# Altium integrated library Infineon_Microcontroller.IntLib: 721 symbols (part 25 of 66)
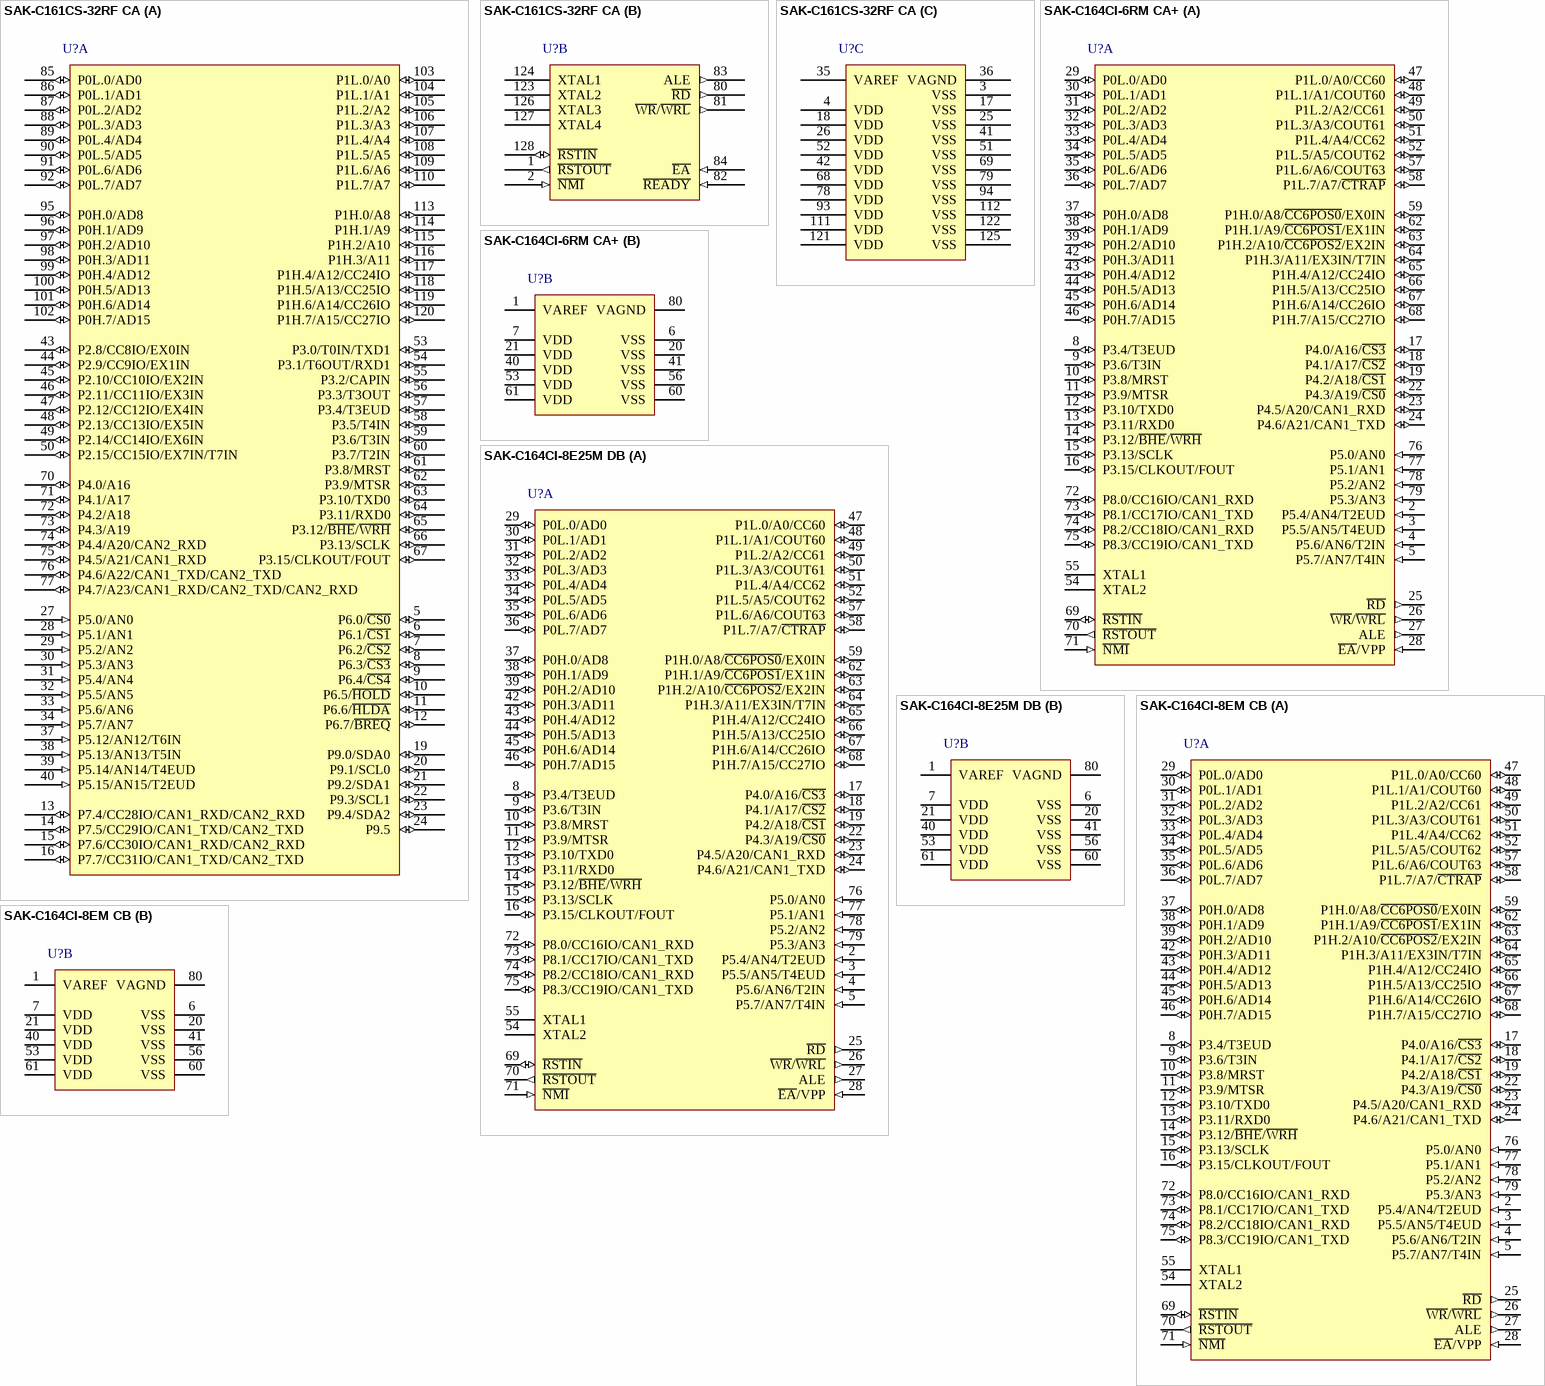
[diagram p142: symbols SAK-C161CS-32RF CA to SAK-C164CI-8EM CB]

## SAK-C164CI-8EM CB
designator U?
20 MHz C166 MCU with 64 KByte Program Memory, 4 KByte SRAM, 5 V, -40 to 125 degC, PG-MQFP-80, Reel, Green; Manufacturer: Infineon; PartNumber: SAK-C164CI-8EM CB; A / D input lines (incl. FADC): 8; CAN Nodes: 1; Digital I/O Lines: 59; DMA Channels: 0; DSP functionality (e.g MDU/MAC): TRUE; I/O Operation Voltages: 5V; Instruction width [bits]: 16; Max Clock Frequency: 20 MHz; Power Modes: 3; Serial I/O Interfaces: 2; SRAM (incl. Cache): 4 KByte; Timed I/O Pins (PWM-Ch,CAPCOM): 12; Timer / Counter: 5; Type of Memory: OTP; Type of Serial I/O Interfaces: ASC(1), SSC(1); DatasheetVersion: Rev. 2.0; PackageVersion: V2.0, 05/2001; PackageReference: P-MQFP-80-7; PackageDescription: 80-Pin Plastic Metric Quad Flat Package, Body 14 x 14 mm, Pitch 0.65 mm; Supplier 1: Newark; Supplier Part Number 1: 62W0452; Supplier 2: Farnell; Supplier Part Number 2: 2212024; Supplier 3: Digi-Key; Supplier Part Number 3: SAK-C164CI-8EMCBIN-ND; External Bus interface: TRUE; Green: TRUE; Halogen-free: TRUE; Number of ADC Modules: 1; Oscillator Watchdog: TRUE; Packing: Reel; Program Memory: 64 KByte; Real Time Clock (RTC): TRUE; Watchdog Timer: TRUE; Mounting Technology: Surface Mount; ComponentLink1Description: Manufacturer URL; ComponentLink1URL: http://www.infineon.com/; ComponentLink2Description: Datasheet; ComponentLink2URL: http://www.infineon.com/dgdl/c164ci_ds_v2.0_2001_05_1.pdf?folderId=db3a304412b407950112b408e8c90004&fileId=db3a304412b407950112b41e161331d0; ComponentLink3Description: Package Specification; ComponentLink3URL: http://www.infineon.com/dgdl/c164ci_ds_v2.0_2001_05_1.pdf?folderId=db3a304412b407950112b408e8c90004&fileId=db3a304412b407950112b41e161331d0&sId=db3a30433d956bc3013d9b13f66314ac
footprint INF-P-MQFP-80-7_N (QFP, 80-Leads, Body 14x14mm, Pitch 0.65mm, IPC Medium Density)
footprint INF-P-MQFP-80-7_L (QFP, 80-Leads, Body 14x14mm, Pitch 0.65mm, IPC High Density)
footprint INF-P-MQFP-80-7_M (QFP, 80-Leads, Body 14x14mm, Pitch 0.65mm, IPC Low Density)
part A pins: 2 P5.4/AN4/T2EUD (in), 3 P5.5/AN5/T4EUD (in), 4 P5.6/AN6/T2IN (in), 5 P5.7/AN7/T4IN (in), 8 P3.4/T3EUD (io), 9 P3.6/T3IN (io), 10 P3.8/MRST (io), 11 P3.9/MTSR (io), 12 P3.10/TXD0 (io), 13 P3.11/RXD0 (io), 14 P3.12/~{BHE}/~{WRH} (io), 15 P3.13/SCLK (io), 16 P3.15/CLKOUT/FOUT (io), 17 P4.0/A16/~{CS3} (io), 18 P4.1/A17/~{CS2} (io), 19 P4.2/A18/~{CS1} (io), 22 P4.3/A19/~{CS0} (io), 23 P4.5/A20/CAN1_RXD (io), 24 P4.6/A21/CAN1_TXD (io), 25 ~{RD} (out) "External Memory Read Strobe. R\D\ is activated for every external instruction or data read access.", 26 ~{WR}/~{WRL} (out) "External Memory Write Strobe. In W\R\-mode this pin is activated for every external data write access. In W\R\L\-mode this pin is activated for low byte data write accesses on a 16-bit bus, and for every data write access on (See Datasheet)", 27 ALE (out) "Address Latch Enable Output. Can be used for latching the address into external memory or an address latch in the multiplexed bus modes.", 28 ~{EA}/VPP (in), 29 P0L.0/AD0 (io), 30 P0L.1/AD1 (io), 31 P0L.2/AD2 (io), 32 P0L.3/AD3 (io), 33 P0L.4/AD4 (io), 34 P0L.5/AD5 (io), 35 P0L.6/AD6 (io), 36 P0L.7/AD7 (io), 37 P0H.0/AD8 (io), 38 P0H.1/AD9 (io), 39 P0H.2/AD10 (io), 42 P0H.3/AD11 (io), 43 P0H.4/AD12 (io), 44 P0H.5/AD13 (io), 45 P0H.6/AD14 (io), 46 P0H.7/AD15 (io), 47 P1L.0/A0/CC60 (io), 48 P1L.1/A1/COUT60 (io), 49 P1L.2/A2/CC61 (io), 50 P1L.3/A3/COUT61 (io), 51 P1L.4/A4/CC62 (io), 52 P1L.5/A5/COUT62 (io), 54 XTAL2 "Output of the oscillator amplifier circuit.", 55 XTAL1 "Input to the oscillator amplifier and input to the internal clock generator", 57 P1L.6/A6/COUT63 (io), 58 P1L.7/A7/~{CTRAP} (io), 59 P1H.0/A8/~{CC6POS0}/EX0IN (io), 62 P1H.1/A9/~{CC6POS1}/EX1IN (io), 63 P1H.2/A10/~{CC6POS2}/EX2IN (io), 64 P1H.3/A11/EX3IN/T7IN (io), 65 P1H.4/A12/CC24IO (io), 66 P1H.5/A13/CC25IO (io), 67 P1H.6/A14/CC26IO (io), 68 P1H.7/A15/CC27IO (io), 69 ~{RSTIN} (io) "Reset Input with Schmitt-Trigger characteristics. A low level at this pin while the oscillator is running resets the C164CI. An internal pullup resistor permits power-on reset using only a capacitor connected to VSS. A spike (See Datasheet)", 70 ~{RSTOUT} (out) "Internal Reset Indication Output. This pin is set to a low level when the part is executing either a hardware-, a software- or a watchdog timer reset. R\S\T\O\U\T\ remains low until the EINIT (end of initialization) (See Datasheet)", 71 ~{NMI} (in) "Non-Maskable Interrupt Input. A high to low transition at this pin causes the CPU to vector to the NMI trap routine. When the PWRDN (power down) instruction is executed, the N\M\I\ pin must be low in order to force the (See Datasheet)", 72 P8.0/CC16IO/CAN1_RXD (io), 73 P8.1/CC17IO/CAN1_TXD (io), 74 P8.2/CC18IO/CAN1_RXD (io), 75 P8.3/CC19IO/CAN1_TXD (io), 76 P5.0/AN0 (in), 77 P5.1/AN1 (in), 78 P5.2/AN2 (in), 79 P5.3/AN3 (in)
part B pins: 1 VAREF (power) "Reference voltage for the A/D converter.", 6 VSS (power) "Digital Ground.", 7 VDD (power) "Digital Supply Voltage: +5 V during normal operation and idle mode. >=2.5 V during power down mode.", 20 VSS (power) "Digital Ground.", 21 VDD (power) "Digital Supply Voltage: +5 V during normal operation and idle mode. >=2.5 V during power down mode.", 40 VDD (power) "Digital Supply Voltage: +5 V during normal operation and idle mode. >=2.5 V during power down mode.", 41 VSS (power) "Digital Ground.", 53 VDD (power) "Digital Supply Voltage: +5 V during normal operation and idle mode. >=2.5 V during power down mode.", 56 VSS (power) "Digital Ground.", 60 VSS (power) "Digital Ground.", 61 VDD (power) "Digital Supply Voltage: +5 V during normal operation and idle mode. >=2.5 V during power down mode.", 80 VAGND (power) "Reference ground for the A/D converter."

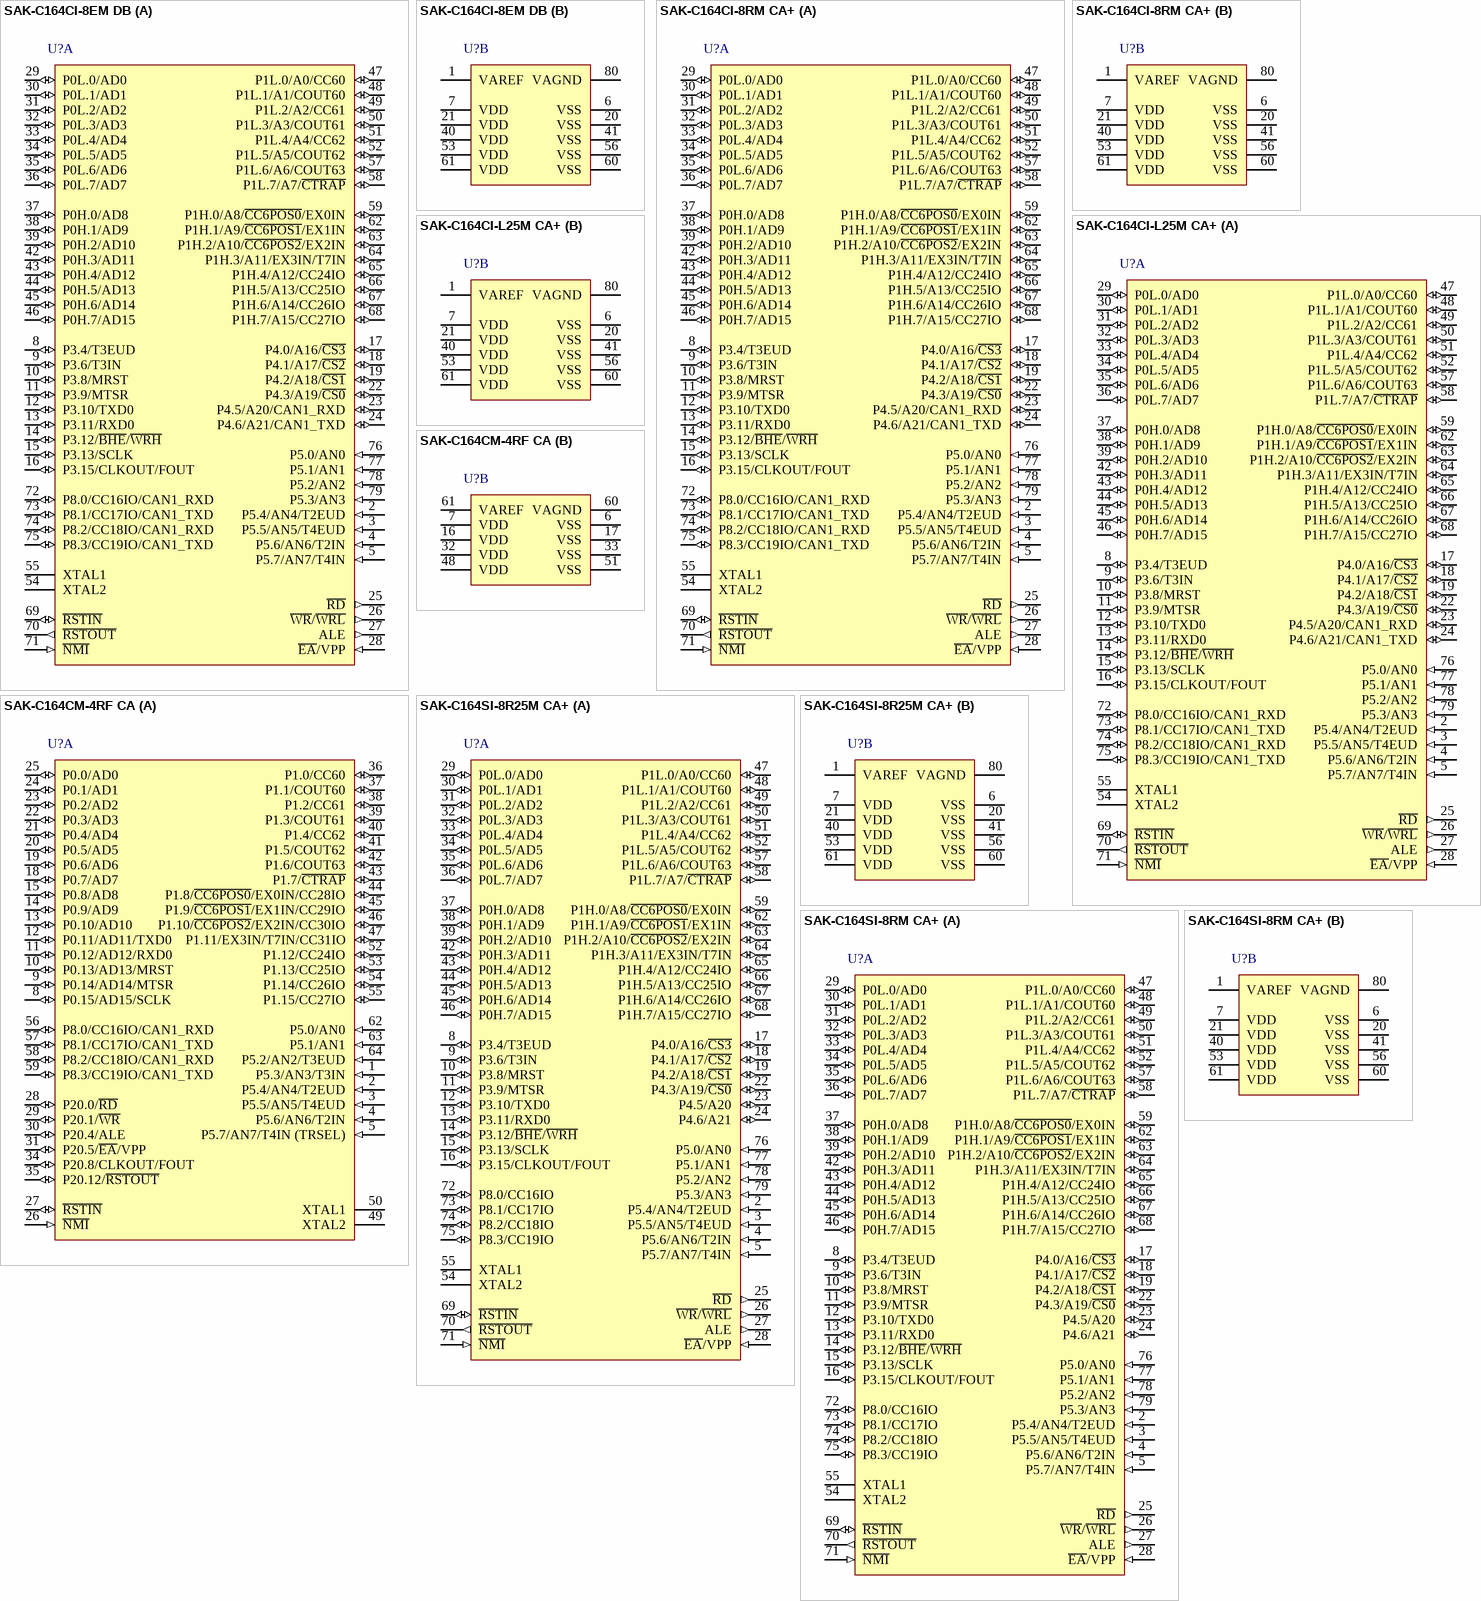
[diagram p42: symbols SAK-C164CI-8EM DB to SAK-C164SI-8RM CA+]

## SAK-C164CI-8EM DB
designator U?
20 MHz C166 MCU with 64 KByte Program Memory, 4 KByte SRAM, 5 V, -40 to 125 degC, PG-MQFP-80, Reel, Green; Manufacturer: Infineon; PartNumber: SAK-C164CI-8EM DB; A / D input lines (incl. FADC): 8; CAN Nodes: 1; Digital I/O Lines: 59; DMA Channels: 0; DSP functionality (e.g MDU/MAC): TRUE; I/O Operation Voltages: 5V; Instruction width [bits]: 16; Max Clock Frequency: 20 MHz; Power Modes: 3; Serial I/O Interfaces: 2; SRAM (incl. Cache): 4 KByte; Timed I/O Pins (PWM-Ch,CAPCOM): 12; Timer / Counter: 5; Type of Memory: OTP; Type of Serial I/O Interfaces: ASC(1), SSC(1); DatasheetVersion: Rev. 2.0; PackageVersion: V2.0, 05/2001; PackageReference: P-MQFP-80-7; PackageDescription: 80-Pin Plastic Metric Quad Flat Package, Body 14 x 14 mm, Pitch 0.65 mm; Supplier 1: Digi-Key; Supplier Part Number 1: SAK-C164CI-8EMDBIN-ND; External Bus interface: TRUE; Green: TRUE; Halogen-free: TRUE; Number of ADC Modules: 1; Oscillator Watchdog: TRUE; Packing: Reel; Program Memory: 64 KByte; Real Time Clock (RTC): TRUE; Watchdog Timer: TRUE; Mounting Technology: Surface Mount; ComponentLink1Description: Manufacturer URL; ComponentLink1URL: http://www.infineon.com/; ComponentLink2Description: Datasheet; ComponentLink2URL: http://www.infineon.com/dgdl/c164ci_ds_v2.0_2001_05_1.pdf?folderId=db3a304412b407950112b408e8c90004&fileId=db3a304412b407950112b41e161331d0; ComponentLink3Description: Package Specification; ComponentLink3URL: http://www.infineon.com/dgdl/c164ci_ds_v2.0_2001_05_1.pdf?folderId=db3a304412b407950112b408e8c90004&fileId=db3a304412b407950112b41e161331d0&sId=db3a30433d956bc3013d9b13f66314ac
footprint INF-P-MQFP-80-7_N (QFP, 80-Leads, Body 14x14mm, Pitch 0.65mm, IPC Medium Density)
footprint INF-P-MQFP-80-7_L (QFP, 80-Leads, Body 14x14mm, Pitch 0.65mm, IPC High Density)
footprint INF-P-MQFP-80-7_M (QFP, 80-Leads, Body 14x14mm, Pitch 0.65mm, IPC Low Density)
part A pins: 2 P5.4/AN4/T2EUD (in), 3 P5.5/AN5/T4EUD (in), 4 P5.6/AN6/T2IN (in), 5 P5.7/AN7/T4IN (in), 8 P3.4/T3EUD (io), 9 P3.6/T3IN (io), 10 P3.8/MRST (io), 11 P3.9/MTSR (io), 12 P3.10/TXD0 (io), 13 P3.11/RXD0 (io), 14 P3.12/~{BHE}/~{WRH} (io), 15 P3.13/SCLK (io), 16 P3.15/CLKOUT/FOUT (io), 17 P4.0/A16/~{CS3} (io), 18 P4.1/A17/~{CS2} (io), 19 P4.2/A18/~{CS1} (io), 22 P4.3/A19/~{CS0} (io), 23 P4.5/A20/CAN1_RXD (io), 24 P4.6/A21/CAN1_TXD (io), 25 ~{RD} (out) "External Memory Read Strobe. R\D\ is activated for every external instruction or data read access.", 26 ~{WR}/~{WRL} (out) "External Memory Write Strobe. In W\R\-mode this pin is activated for every external data write access. In W\R\L\-mode this pin is activated for low byte data write accesses on a 16-bit bus, and for every data write access on (See Datasheet)", 27 ALE (out) "Address Latch Enable Output. Can be used for latching the address into external memory or an address latch in the multiplexed bus modes.", 28 ~{EA}/VPP (in), 29 P0L.0/AD0 (io), 30 P0L.1/AD1 (io), 31 P0L.2/AD2 (io), 32 P0L.3/AD3 (io), 33 P0L.4/AD4 (io), 34 P0L.5/AD5 (io), 35 P0L.6/AD6 (io), 36 P0L.7/AD7 (io), 37 P0H.0/AD8 (io), 38 P0H.1/AD9 (io), 39 P0H.2/AD10 (io), 42 P0H.3/AD11 (io), 43 P0H.4/AD12 (io), 44 P0H.5/AD13 (io), 45 P0H.6/AD14 (io), 46 P0H.7/AD15 (io), 47 P1L.0/A0/CC60 (io), 48 P1L.1/A1/COUT60 (io), 49 P1L.2/A2/CC61 (io), 50 P1L.3/A3/COUT61 (io), 51 P1L.4/A4/CC62 (io), 52 P1L.5/A5/COUT62 (io), 54 XTAL2 "Output of the oscillator amplifier circuit.", 55 XTAL1 "Input to the oscillator amplifier and input to the internal clock generator", 57 P1L.6/A6/COUT63 (io), 58 P1L.7/A7/~{CTRAP} (io), 59 P1H.0/A8/~{CC6POS0}/EX0IN (io), 62 P1H.1/A9/~{CC6POS1}/EX1IN (io), 63 P1H.2/A10/~{CC6POS2}/EX2IN (io), 64 P1H.3/A11/EX3IN/T7IN (io), 65 P1H.4/A12/CC24IO (io), 66 P1H.5/A13/CC25IO (io), 67 P1H.6/A14/CC26IO (io), 68 P1H.7/A15/CC27IO (io), 69 ~{RSTIN} (io) "Reset Input with Schmitt-Trigger characteristics. A low level at this pin while the oscillator is running resets the C164CI. An internal pullup resistor permits power-on reset using only a capacitor connected to VSS. A spike (See Datasheet)", 70 ~{RSTOUT} (out) "Internal Reset Indication Output. This pin is set to a low level when the part is executing either a hardware-, a software- or a watchdog timer reset. R\S\T\O\U\T\ remains low until the EINIT (end of initialization) (See Datasheet)", 71 ~{NMI} (in) "Non-Maskable Interrupt Input. A high to low transition at this pin causes the CPU to vector to the NMI trap routine. When the PWRDN (power down) instruction is executed, the N\M\I\ pin must be low in order to force the (See Datasheet)", 72 P8.0/CC16IO/CAN1_RXD (io), 73 P8.1/CC17IO/CAN1_TXD (io), 74 P8.2/CC18IO/CAN1_RXD (io), 75 P8.3/CC19IO/CAN1_TXD (io), 76 P5.0/AN0 (in), 77 P5.1/AN1 (in), 78 P5.2/AN2 (in), 79 P5.3/AN3 (in)
part B pins: 1 VAREF (power) "Reference voltage for the A/D converter.", 6 VSS (power) "Digital Ground.", 7 VDD (power) "Digital Supply Voltage: +5 V during normal operation and idle mode. >=2.5 V during power down mode.", 20 VSS (power) "Digital Ground.", 21 VDD (power) "Digital Supply Voltage: +5 V during normal operation and idle mode. >=2.5 V during power down mode.", 40 VDD (power) "Digital Supply Voltage: +5 V during normal operation and idle mode. >=2.5 V during power down mode.", 41 VSS (power) "Digital Ground.", 53 VDD (power) "Digital Supply Voltage: +5 V during normal operation and idle mode. >=2.5 V during power down mode.", 56 VSS (power) "Digital Ground.", 60 VSS (power) "Digital Ground.", 61 VDD (power) "Digital Supply Voltage: +5 V during normal operation and idle mode. >=2.5 V during power down mode.", 80 VAGND (power) "Reference ground for the A/D converter."

## SAK-C164CI-8RM CA+
designator U?
20 MHz C166 MCU with 64 KByte Program Memory, 4 KByte SRAM, 5 V, -40 to 125 degC, PG-MQFP-80, Green; Manufacturer: Infineon; PartNumber: SAK-C164CI-8RM CA+; A / D input lines (incl. FADC): 8; CAN Nodes: 1; Digital I/O Lines: 59; DMA Channels: 0; DSP functionality (e.g MDU/MAC): TRUE; I/O Operation Voltages: 5V; Instruction width [bits]: 16; Max Clock Frequency: 20 MHz; Power Modes: 3; Serial I/O Interfaces: 2; SRAM (incl. Cache): 4 KByte; Timed I/O Pins (PWM-Ch,CAPCOM): 12; Timer / Counter: 5; Type of Memory: ROM; Type of Serial I/O Interfaces: ASC(1), SSC(1); DatasheetVersion: Rev. 2.0; PackageVersion: V2.0, 05/2001; PackageReference: P-MQFP-80-7; PackageDescription: 80-Pin Plastic Metric Quad Flat Package, Body 14 x 14 mm, Pitch 0.65 mm; External Bus interface: TRUE; Green: TRUE; Number of ADC Modules: 1; Oscillator Watchdog: TRUE; Program Memory: 64 KByte; Real Time Clock (RTC): TRUE; Watchdog Timer: TRUE; Mounting Technology: Surface Mount; ComponentLink1Description: Manufacturer URL; ComponentLink1URL: http://www.infineon.com/; ComponentLink2Description: Datasheet; ComponentLink2URL: http://www.infineon.com/dgdl/c164ci_ds_v2.0_2001_05_1.pdf?folderId=db3a304412b407950112b408e8c90004&fileId=db3a304412b407950112b41e161331d0; ComponentLink3Description: Package Specification; ComponentLink3URL: http://www.infineon.com/dgdl/c164ci_ds_v2.0_2001_05_1.pdf?folderId=db3a304412b407950112b408e8c90004&fileId=db3a304412b407950112b41e161331d0&sId=db3a30433d956bc3013d9b13f66314ac
footprint INF-P-MQFP-80-7_N (QFP, 80-Leads, Body 14x14mm, Pitch 0.65mm, IPC Medium Density)
footprint INF-P-MQFP-80-7_L (QFP, 80-Leads, Body 14x14mm, Pitch 0.65mm, IPC High Density)
footprint INF-P-MQFP-80-7_M (QFP, 80-Leads, Body 14x14mm, Pitch 0.65mm, IPC Low Density)
part A pins: 2 P5.4/AN4/T2EUD (in), 3 P5.5/AN5/T4EUD (in), 4 P5.6/AN6/T2IN (in), 5 P5.7/AN7/T4IN (in), 8 P3.4/T3EUD (io), 9 P3.6/T3IN (io), 10 P3.8/MRST (io), 11 P3.9/MTSR (io), 12 P3.10/TXD0 (io), 13 P3.11/RXD0 (io), 14 P3.12/~{BHE}/~{WRH} (io), 15 P3.13/SCLK (io), 16 P3.15/CLKOUT/FOUT (io), 17 P4.0/A16/~{CS3} (io), 18 P4.1/A17/~{CS2} (io), 19 P4.2/A18/~{CS1} (io), 22 P4.3/A19/~{CS0} (io), 23 P4.5/A20/CAN1_RXD (io), 24 P4.6/A21/CAN1_TXD (io), 25 ~{RD} (out) "External Memory Read Strobe. R\D\ is activated for every external instruction or data read access.", 26 ~{WR}/~{WRL} (out) "External Memory Write Strobe. In W\R\-mode this pin is activated for every external data write access. In W\R\L\-mode this pin is activated for low byte data write accesses on a 16-bit bus, and for every data write access on (See Datasheet)", 27 ALE (out) "Address Latch Enable Output. Can be used for latching the address into external memory or an address latch in the multiplexed bus modes.", 28 ~{EA}/VPP (in), 29 P0L.0/AD0 (io), 30 P0L.1/AD1 (io), 31 P0L.2/AD2 (io), 32 P0L.3/AD3 (io), 33 P0L.4/AD4 (io), 34 P0L.5/AD5 (io), 35 P0L.6/AD6 (io), 36 P0L.7/AD7 (io), 37 P0H.0/AD8 (io), 38 P0H.1/AD9 (io), 39 P0H.2/AD10 (io), 42 P0H.3/AD11 (io), 43 P0H.4/AD12 (io), 44 P0H.5/AD13 (io), 45 P0H.6/AD14 (io), 46 P0H.7/AD15 (io), 47 P1L.0/A0/CC60 (io), 48 P1L.1/A1/COUT60 (io), 49 P1L.2/A2/CC61 (io), 50 P1L.3/A3/COUT61 (io), 51 P1L.4/A4/CC62 (io), 52 P1L.5/A5/COUT62 (io), 54 XTAL2 "Output of the oscillator amplifier circuit.", 55 XTAL1 "Input to the oscillator amplifier and input to the internal clock generator.", 57 P1L.6/A6/COUT63 (io), 58 P1L.7/A7/~{CTRAP} (io), 59 P1H.0/A8/~{CC6POS0}/EX0IN (io), 62 P1H.1/A9/~{CC6POS1}/EX1IN (io), 63 P1H.2/A10/~{CC6POS2}/EX2IN (io), 64 P1H.3/A11/EX3IN/T7IN (io), 65 P1H.4/A12/CC24IO (io), 66 P1H.5/A13/CC25IO (io), 67 P1H.6/A14/CC26IO (io), 68 P1H.7/A15/CC27IO (io), 69 ~{RSTIN} (io) "Reset Input with Schmitt-Trigger characteristics. A low level at this pin while the oscillator is running resets the C164CI. An internal pullup resistor permits power-on reset using only a capacitor connected to VSS. A spike (See Datasheet)", 70 ~{RSTOUT} (out) "Internal Reset Indication Output. This pin is set to a low level when the part is executing either a hardware-, a software- or a watchdog timer reset. R\S\T\O\U\T\ remains low until the EINIT (end of initialization) (See Datasheet)", 71 ~{NMI} (in) "Non-Maskable Interrupt Input. A high to low transition at this pin causes the CPU to vector to the NMI trap routine. When the PWRDN (power down) instruction is executed, the N\M\I\ pin must be low in order to force the (See Datasheet)", 72 P8.0/CC16IO/CAN1_RXD (io), 73 P8.1/CC17IO/CAN1_TXD (io), 74 P8.2/CC18IO/CAN1_RXD (io), 75 P8.3/CC19IO/CAN1_TXD (io), 76 P5.0/AN0 (in), 77 P5.1/AN1 (in), 78 P5.2/AN2 (in), 79 P5.3/AN3 (in)
part B pins: 1 VAREF (power) "Reference voltage for the A/D converter.", 6 VSS (power) "Digital Ground.", 7 VDD (power) "Digital Supply Voltage: +5 V during normal operation and idle mode. >=2.5 V during power down mode.", 20 VSS (power) "Digital Ground.", 21 VDD (power) "Digital Supply Voltage: +5 V during normal operation and idle mode. >=2.5 V during power down mode.", 40 VDD (power) "Digital Supply Voltage: +5 V during normal operation and idle mode. >=2.5 V during power down mode.", 41 VSS (power) "Digital Ground.", 53 VDD (power) "Digital Supply Voltage: +5 V during normal operation and idle mode. >=2.5 V during power down mode.", 56 VSS (power) "Digital Ground.", 60 VSS (power) "Digital Ground.", 61 VDD (power) "Digital Supply Voltage: +5 V during normal operation and idle mode. >=2.5 V during power down mode.", 80 VAGND (power) "Reference ground for the A/D converter."

## SAK-C164CI-L25M CA+
designator U?
25 MHz C166 MCU without Program Memory, 4 KByte SRAM, 5 V, -40 to 125 degC, PG-MQFP-80, Reel, Green; Manufacturer: Infineon; PartNumber: SAK-C164CI-L25M CA+; A / D input lines (incl. FADC): 8; CAN Nodes: 1; Digital I/O Lines: 59; DMA Channels: 0; DSP functionality (e.g MDU/MAC): TRUE; I/O Operation Voltages: 5V; Instruction width [bits]: 16; Max Clock Frequency: 25 MHz; Power Modes: 3; Serial I/O Interfaces: 2; SRAM (incl. Cache): 4 KByte; Timed I/O Pins (PWM-Ch,CAPCOM): 12; Timer / Counter: 5; Type of Memory: ROM less; Type of Serial I/O Interfaces: ASC(1), SSC(1); DatasheetVersion: Rev. 2.0; PackageVersion: V2.0, 05/2001; PackageReference: P-MQFP-80-7; PackageDescription: 80-Pin Plastic Metric Quad Flat Package, Body 14 x 14 mm, Pitch 0.65 mm; Supplier 1: Digi-Key; Supplier Part Number 1: SAK-C164CI-L25M CA+-ND; External Bus interface: TRUE; Green: TRUE; Halogen-free: TRUE; Number of ADC Modules: 1; Oscillator Watchdog: TRUE; Packing: Reel; Real Time Clock (RTC): TRUE; Watchdog Timer: TRUE; Mounting Technology: Surface Mount; ComponentLink1Description: Manufacturer URL; ComponentLink1URL: http://www.infineon.com/; ComponentLink2Description: Datasheet; ComponentLink2URL: http://www.infineon.com/dgdl/c164ci_ds_v2.0_2001_05_1.pdf?folderId=db3a304412b407950112b408e8c90004&fileId=db3a304412b407950112b41e161331d0; ComponentLink3Description: Package Specification; ComponentLink3URL: http://www.infineon.com/dgdl/c164ci_ds_v2.0_2001_05_1.pdf?folderId=db3a304412b407950112b408e8c90004&fileId=db3a304412b407950112b41e161331d0&sId=db3a30433d956bc3013d9b13f66314ac
footprint INF-P-MQFP-80-7_N (QFP, 80-Leads, Body 14x14mm, Pitch 0.65mm, IPC Medium Density)
footprint INF-P-MQFP-80-7_L (QFP, 80-Leads, Body 14x14mm, Pitch 0.65mm, IPC High Density)
footprint INF-P-MQFP-80-7_M (QFP, 80-Leads, Body 14x14mm, Pitch 0.65mm, IPC Low Density)
part A pins: 2 P5.4/AN4/T2EUD (in), 3 P5.5/AN5/T4EUD (in), 4 P5.6/AN6/T2IN (in), 5 P5.7/AN7/T4IN (in), 8 P3.4/T3EUD (io), 9 P3.6/T3IN (io), 10 P3.8/MRST (io), 11 P3.9/MTSR (io), 12 P3.10/TXD0 (io), 13 P3.11/RXD0 (io), 14 P3.12/~{BHE}/~{WRH} (io), 15 P3.13/SCLK (io), 16 P3.15/CLKOUT/FOUT (io), 17 P4.0/A16/~{CS3} (io), 18 P4.1/A17/~{CS2} (io), 19 P4.2/A18/~{CS1} (io), 22 P4.3/A19/~{CS0} (io), 23 P4.5/A20/CAN1_RXD (io), 24 P4.6/A21/CAN1_TXD (io), 25 ~{RD} (out) "External Memory Read Strobe. R\D\ is activated for every external instruction or data read access.", 26 ~{WR}/~{WRL} (out) "External Memory Write Strobe. In W\R\-mode this pin is activated for every external data write access. In W\R\L\-mode this pin is activated for low byte data write accesses on a 16-bit bus, and for every data write access on (See Datasheet)", 27 ALE (out) "Address Latch Enable Output. Can be used for latching the address into external memory or an address latch in the multiplexed bus modes.", 28 ~{EA}/VPP (in), 29 P0L.0/AD0 (io), 30 P0L.1/AD1 (io), 31 P0L.2/AD2 (io), 32 P0L.3/AD3 (io), 33 P0L.4/AD4 (io), 34 P0L.5/AD5 (io), 35 P0L.6/AD6 (io), 36 P0L.7/AD7 (io), 37 P0H.0/AD8 (io), 38 P0H.1/AD9 (io), 39 P0H.2/AD10 (io), 42 P0H.3/AD11 (io), 43 P0H.4/AD12 (io), 44 P0H.5/AD13 (io), 45 P0H.6/AD14 (io), 46 P0H.7/AD15 (io), 47 P1L.0/A0/CC60 (io), 48 P1L.1/A1/COUT60 (io), 49 P1L.2/A2/CC61 (io), 50 P1L.3/A3/COUT61 (io), 51 P1L.4/A4/CC62 (io), 52 P1L.5/A5/COUT62 (io), 54 XTAL2 "Output of the oscillator amplifier circuit.", 55 XTAL1 "Input to the oscillator amplifier and input to the internal clock generator.", 57 P1L.6/A6/COUT63 (io), 58 P1L.7/A7/~{CTRAP} (io), 59 P1H.0/A8/~{CC6POS0}/EX0IN (io), 62 P1H.1/A9/~{CC6POS1}/EX1IN (io), 63 P1H.2/A10/~{CC6POS2}/EX2IN (io), 64 P1H.3/A11/EX3IN/T7IN (io), 65 P1H.4/A12/CC24IO (io), 66 P1H.5/A13/CC25IO (io), 67 P1H.6/A14/CC26IO (io), 68 P1H.7/A15/CC27IO (io), 69 ~{RSTIN} (io) "Reset Input with Schmitt-Trigger characteristics. A low level at this pin while the oscillator is running resets the C164CI. An internal pullup resistor permits power-on reset using only a capacitor connected to VSS. A spike (See Datasheet)", 70 ~{RSTOUT} (out) "Internal Reset Indication Output. This pin is set to a low level when the part is executing either a hardware-, a software- or a watchdog timer reset. R\S\T\O\U\T\ remains low until the EINIT (end of initialization) (See Datasheet)", 71 ~{NMI} (in) "Non-Maskable Interrupt Input. A high to low transition at this pin causes the CPU to vector to the NMI trap routine. When the PWRDN (power down) instruction is executed, the N\M\I\ pin must be low in order to force the (See Datasheet)", 72 P8.0/CC16IO/CAN1_RXD (io), 73 P8.1/CC17IO/CAN1_TXD (io), 74 P8.2/CC18IO/CAN1_RXD (io), 75 P8.3/CC19IO/CAN1_TXD (io), 76 P5.0/AN0 (in), 77 P5.1/AN1 (in), 78 P5.2/AN2 (in), 79 P5.3/AN3 (in)
part B pins: 1 VAREF (power) "Reference voltage for the A/D converter.", 6 VSS (power) "Digital Ground.", 7 VDD (power) "Digital Supply Voltage: +5 V during normal operation and idle mode. >=2.5 V during power down mode.", 20 VSS (power) "Digital Ground.", 21 VDD (power) "Digital Supply Voltage: +5 V during normal operation and idle mode. >=2.5 V during power down mode.", 40 VDD (power) "Digital Supply Voltage: +5 V during normal operation and idle mode. >=2.5 V during power down mode.", 41 VSS (power) "Digital Ground.", 53 VDD (power) "Digital Supply Voltage: +5 V during normal operation and idle mode. >=2.5 V during power down mode.", 56 VSS (power) "Digital Ground.", 60 VSS (power) "Digital Ground.", 61 VDD (power) "Digital Supply Voltage: +5 V during normal operation and idle mode. >=2.5 V during power down mode.", 80 VAGND (power) "Reference ground for the A/D converter."

## SAK-C164CM-4RF CA
designator U?
20 MHz C166 MCU with 32 KByte Program Memory, 2 KByte SRAM, 5 V, -40 to 125 degC, PG-TQFP-64, Green; Manufacturer: Infineon; PartNumber: SAK-C164CM-4RF CA; A / D input lines (incl. FADC): 8; CAN Nodes: 1; Digital I/O Lines: 50; DMA Channels: 0; DSP functionality (e.g MDU/MAC): TRUE; I/O Operation Voltages: 5V; Instruction width [bits]: 16; Max Clock Frequency: 20 MHz; Power Modes: 3; Serial I/O Interfaces: 2; SRAM (incl. Cache): 2 KByte; Timer / Counter: 5; Type of Memory: ROM; Type of Serial I/O Interfaces: ASC(1), SSC(1); DatasheetVersion: Rev. 1.0; PackageVersion: V1.0, 05/2001; PackageReference: P-TQFP-64-4; PackageDescription: 64-Pin Plastic Metric Quad Flat Package, Body 10 x 10 mm, Pitch 0.5 mm; External Bus interface: TRUE; Green: TRUE; Number of ADC Modules: 1; Oscillator Watchdog: TRUE; Program Memory: 32 KByte; Real Time Clock (RTC): TRUE; Timed I/O Pins (PWM-Ch,CAPCOM): 16; Watchdog Timer: TRUE; Mounting Technology: Surface Mount; ComponentLink1Description: Manufacturer URL; ComponentLink1URL: http://www.infineon.com/; ComponentLink2Description: Datasheet; ComponentLink2URL: http://www.infineon.com/dgdl/c164cm_ds_v1.0_2001_05.pdf?folderId=db3a304412b407950112b408e8c90004&fileId=db3a304412b407950112b41d65b2300c; ComponentLink3Description: Package Specification; ComponentLink3URL: http://www.infineon.com/dgdl/c164cm_ds_v1.0_2001_05.pdf?folderId=db3a304412b407950112b408e8c90004&fileId=db3a304412b407950112b41d65b2300c&sId=db3a30443d98b7f0013d9b87688b0207
footprint INF-P-TQFP-64-4_N (QFP, 64-Leads, Body 10x10mm, Pitch 0.5mm, IPC Medium Density)
footprint INF-P-TQFP-64-4_L (QFP, 64-Leads, Body 10x10mm, Pitch 0.5mm, IPC High Density)
footprint INF-P-TQFP-64-4_M (QFP, 64-Leads, Body 10x10mm, Pitch 0.5mm, IPC Low Density)
part A pins: 1 P5.3/AN3/T3IN (in), 2 P5.4/AN4/T2EUD (in), 3 P5.5/AN5/T4EUD (in), 4 P5.6/AN6/T2IN (in), 5 P5.7/AN7/T4IN (TRSEL) (in), 8 P0.15/AD15/SCLK (io), 9 P0.14/AD14/MTSR (io), 10 P0.13/AD13/MRST (io), 11 P0.12/AD12/RXD0 (io), 12 P0.11/AD11/TXD0 (io), 13 P0.10/AD10 (io), 14 P0.9/AD9 (io), 15 P0.8/AD8 (io), 18 P0.7/AD7 (io), 19 P0.6/AD6 (io), 20 P0.5/AD5 (io), 21 P0.4/AD4 (io), 22 P0.3/AD3 (io), 23 P0.2/AD2 (io), 24 P0.1/AD1 (io), 25 P0.0/AD0 (io), 26 ~{NMI} (in) "Non-Maskable Interrupt Input. A high to low transition at this pin causes the CPU to vector to the N\M\I\ trap routine. When the PWRDN (power down) instruction is executed, the N\M\I\ pin must be low in order to force the (See Datasheet)", 27 ~{RSTIN} (io) "Reset Input with Schmitt-Trigger characteristics. A low level at this pin while the oscillator is running resets the C164CM.An internal pullup resistor permits power-on reset using onlya capacitor connected to VSS.A spike (See Datasheet)", 28 P20.0/~{RD} (io), 29 P20.1/~{WR} (io), 30 P20.4/ALE (io), 31 P20.5/~{EA}/VPP (io), 34 P20.8/CLKOUT/FOUT (io), 35 P20.12/~{RSTOUT} (io), 36 P1.0/CC60 (io), 37 P1.1/COUT60 (io), 38 P1.2/CC61 (io), 39 P1.3/COUT61 (io), 40 P1.4/CC62 (io), 41 P1.5/COUT62 (io), 42 P1.6/COUT63 (io), 43 P1.7/~{CTRAP} (io), 44 P1.8/~{CC6POS0}/EX0IN/CC28IO (io), 45 P1.9/~{CC6POS1}/EX1IN/CC29IO (io), 46 P1.10/~{CC6POS2}/EX2IN/CC30IO (io), 47 P1.11/EX3IN/T7IN/CC31IO (io), 49 XTAL2 "Output of the oscillator amplifier circuit", 50 XTAL1 "Input to the oscillator amplifier and input to the internal clock generator To clock the device from an external source, drive XTAL1, while leaving XTAL2 unconnected. Minimum and maximum high/low and rise/fall times (See Datasheet)", 52 P1.12/CC24IO (io), 53 P1.13/CC25IO (io), 54 P1.14/CC26IO (io), 55 P1.15/CC27IO (io), 56 P8.0/CC16IO/CAN1_RXD (io), 57 P8.1/CC17IO/CAN1_TXD (io), 58 P8.2/CC18IO/CAN1_RXD (io), 59 P8.3/CC19IO/CAN1_TXD (io), 62 P5.0/AN0 (in), 63 P5.1/AN1 (in), 64 P5.2/AN2/T3EUD (in)
part B pins: 6 VSS (power) "Digital Ground", 7 VDD (power) "Digital Supply Voltage: +5 V during normal operation and idle mode.= 2.5 V during power down mode.", 16 VDD (power) "Digital Supply Voltage: +5 V during normal operation and idle mode.= 2.5 V during power down mode.", 17 VSS (power) "Digital Ground", 32 VDD (power) "Digital Supply Voltage: +5 V during normal operation and idle mode.= 2.5 V during power down mode.", 33 VSS (power) "Digital Ground", 48 VDD (power) "Digital Supply Voltage: +5 V during normal operation and idle mode.= 2.5 V during power down mode.", 51 VSS (power) "Digital Ground", 60 VAGND (power) "Reference ground for the A/D converter.", 61 VAREF (power) "Reference voltage for the A/D converter."

## SAK-C164SI-8R25M CA+
designator U?
25 MHz C166 MCU with 64 KByte Program Memory, 4 KByte SRAM, 5 V, -40 to 125 degC, PG-MQFP-80, Green; Manufacturer: Infineon; PartNumber: SAK-C164SI-8R25M CA+; A / D input lines (incl. FADC): 8; CAN Nodes: 0; Digital I/O Lines: 59; DSP functionality (e.g MDU/MAC): TRUE; I/O Operation Voltages: 5 V; Instruction width [bits]: 16; Max Clock Frequency: 25 MHz; Number of ADC Modules: 1; Power Modes: 3; Serial I/O Interfaces: 2; SRAM (incl. Cache): 4 KByte; Timed I/O Pins (PWM-Ch,CAPCOM): 12; Timer / Counter: 5; Type of Memory: ROM; Type of Serial I/O Interfaces: ASC(1), SSC(1); DatasheetVersion: Rev. 2.0; PackageVersion: V2.0, 05/2001; PackageReference: P-MQFP-80-7; PackageDescription: 80-Pin Plastic Metric Quad Flat Package, Body 14 x 14 mm, Pitch 0.65 mm; DMA Channels: 0; External Bus interface: TRUE; Green: TRUE; Oscillator Watchdog: TRUE; Program Memory: 64 KByte; Real Time Clock (RTC): TRUE; Watchdog Timer: TRUE; Mounting Technology: Surface Mount; ComponentLink1Description: Manufacturer URL; ComponentLink1URL: http://www.infineon.com/; ComponentLink2Description: Datasheet; ComponentLink2URL: http://www.infineon.com/dgdl/c164ci_ds_v2.0_2001_05_1.pdf?folderId=db3a304412b407950112b408e8c90004&fileId=db3a304412b407950112b41e161331d0; ComponentLink3Description: Package Specification; ComponentLink3URL: http://www.infineon.com/dgdl/c164ci_ds_v2.0_2001_05_1.pdf?folderId=db3a304412b407950112b408e8c90004&fileId=db3a304412b407950112b41e161331d0&sId=db3a30433d956bc3013d9b13f66314ac
footprint INF-P-MQFP-80-7_N (QFP, 80-Leads, Body 14x14mm, Pitch 0.65mm, IPC Medium Density)
footprint INF-P-MQFP-80-7_L (QFP, 80-Leads, Body 14x14mm, Pitch 0.65mm, IPC High Density)
footprint INF-P-MQFP-80-7_M (QFP, 80-Leads, Body 14x14mm, Pitch 0.65mm, IPC Low Density)
part A pins: 2 P5.4/AN4/T2EUD (in), 3 P5.5/AN5/T4EUD (in), 4 P5.6/AN6/T2IN (in), 5 P5.7/AN7/T4IN (in), 8 P3.4/T3EUD (io), 9 P3.6/T3IN (io), 10 P3.8/MRST (io), 11 P3.9/MTSR (io), 12 P3.10/TXD0 (io), 13 P3.11/RXD0 (io), 14 P3.12/~{BHE}/~{WRH} (io), 15 P3.13/SCLK (io), 16 P3.15/CLKOUT/FOUT (io), 17 P4.0/A16/~{CS3} (io), 18 P4.1/A17/~{CS2} (io), 19 P4.2/A18/~{CS1} (io), 22 P4.3/A19/~{CS0} (io), 23 P4.5/A20 (io), 24 P4.6/A21 (io), 25 ~{RD} (out) "External Memory Read Strobe. R\D\ is activated for every external instruction or data read access.", 26 ~{WR}/~{WRL} (out) "External Memory Write Strobe. In W\R\-mode this pin is activated for every external data write access. In W\R\L\-mode this pin is activated for low byte data write accesses on a 16-bit bus, and for every data write access on (See Datasheet)", 27 ALE (out) "Address Latch Enable Output. Can be used for latching the address into external memory or an address latch in the multiplexed bus modes.", 28 ~{EA}/VPP (in), 29 P0L.0/AD0 (io), 30 P0L.1/AD1 (io), 31 P0L.2/AD2 (io), 32 P0L.3/AD3 (io), 33 P0L.4/AD4 (io), 34 P0L.5/AD5 (io), 35 P0L.6/AD6 (io), 36 P0L.7/AD7 (io), 37 P0H.0/AD8 (io), 38 P0H.1/AD9 (io), 39 P0H.2/AD10 (io), 42 P0H.3/AD11 (io), 43 P0H.4/AD12 (io), 44 P0H.5/AD13 (io), 45 P0H.6/AD14 (io), 46 P0H.7/AD15 (io), 47 P1L.0/A0/CC60 (io), 48 P1L.1/A1/COUT60 (io), 49 P1L.2/A2/CC61 (io), 50 P1L.3/A3/COUT61 (io), 51 P1L.4/A4/CC62 (io), 52 P1L.5/A5/COUT62 (io), 54 XTAL2 "Output of the oscillator amplifier circuit.", 55 XTAL1 "Input to the oscillator amplifier and input to the internal clock generator", 57 P1L.6/A6/COUT63 (io), 58 P1L.7/A7/~{CTRAP} (io), 59 P1H.0/A8/~{CC6POS0}/EX0IN (io), 62 P1H.1/A9/~{CC6POS1}/EX1IN (io), 63 P1H.2/A10/~{CC6POS2}/EX2IN (io), 64 P1H.3/A11/EX3IN/T7IN (io), 65 P1H.4/A12/CC24IO (io), 66 P1H.5/A13/CC25IO (io), 67 P1H.6/A14/CC26IO (io), 68 P1H.7/A15/CC27IO (io), 69 ~{RSTIN} (io) "Reset Input with Schmitt-Trigger characteristics. A low level at this pin while the oscillator is running resets the C164SI. An internal pullup resistor permits power-on reset using only a capacitor connected to VSS.", 70 ~{RSTOUT} (out) "Internal Reset Indication Output. This pin is set to a low level when the part is executing either a hardware-, a software- or a watchdog timer reset. R\S\T\O\U\T\ remains low until the EINIT (end of initialization) (See Datasheet)", 71 ~{NMI} (in) "Non-Maskable Interrupt Input. A high to low transition at this pin causes the CPU to vector to the NMI trap routine. When the PWRDN (power down) instruction is executed, the N\M\I\ pin must be low in order to force the (See Datasheet)", 72 P8.0/CC16IO (io), 73 P8.1/CC17IO (io), 74 P8.2/CC18IO (io), 75 P8.3/CC19IO (io), 76 P5.0/AN0 (in), 77 P5.1/AN1 (in), 78 P5.2/AN2 (in), 79 P5.3/AN3 (in)
part B pins: 1 VAREF (power) "Reference voltage for the A/D converter.", 6 VSS (power) "Digital Ground.", 7 VDD (power) "Digital Supply Voltage: +5 V during normal operation and idle mode. =2.5 V during power down mode.", 20 VSS (power) "Digital Ground.", 21 VDD (power) "Digital Supply Voltage: +5 V during normal operation and idle mode. =2.5 V during power down mode.", 40 VDD (power) "Digital Supply Voltage: +5 V during normal operation and idle mode. =2.5 V during power down mode.", 41 VSS (power) "Digital Ground.", 53 VDD (power) "Digital Supply Voltage: +5 V during normal operation and idle mode. =2.5 V during power down mode.", 56 VSS (power) "Digital Ground.", 60 VSS (power) "Digital Ground.", 61 VDD (power) "Digital Supply Voltage: +5 V during normal operation and idle mode. =2.5 V during power down mode.", 80 VAGND (power) "Reference ground for the A/D converter."

## SAK-C164SI-8RM CA+
designator U?
20 MHz C166 MCU with 64 KByte Program Memory, 4 KByte SRAM, 5 V, -40 to 125 degC, PG-MQFP-80, Green; Manufacturer: Infineon; PartNumber: SAK-C164SI-8RM CA+; A / D input lines (incl. FADC): 8; CAN Nodes: 0; Digital I/O Lines: 59; DSP functionality (e.g MDU/MAC): TRUE; I/O Operation Voltages: 5 V; Instruction width [bits]: 16; Max Clock Frequency: 20 MHz; Number of ADC Modules: 1; Power Modes: 3; Serial I/O Interfaces: 2; SRAM (incl. Cache): 4 KByte; Timed I/O Pins (PWM-Ch,CAPCOM): 12; Timer / Counter: 5; Type of Memory: ROM; Type of Serial I/O Interfaces: ASC(1), SSC(1); DatasheetVersion: Rev. 2.0; PackageVersion: V2.0, 05/2001; PackageReference: P-MQFP-80-7; PackageDescription: 80-Pin Plastic Metric Quad Flat Package, Body 14 x 14 mm, Pitch 0.65 mm; DMA Channels: 0; External Bus interface: TRUE; Green: TRUE; Oscillator Watchdog: TRUE; Program Memory: 64 KByte; Real Time Clock (RTC): TRUE; Watchdog Timer: TRUE; Mounting Technology: Surface Mount; ComponentLink1Description: Manufacturer URL; ComponentLink1URL: http://www.infineon.com/; ComponentLink2Description: Datasheet; ComponentLink2URL: http://www.infineon.com/dgdl/c164ci_ds_v2.0_2001_05_1.pdf?folderId=db3a304412b407950112b408e8c90004&fileId=db3a304412b407950112b41e161331d0; ComponentLink3Description: Package Specification; ComponentLink3URL: http://www.infineon.com/dgdl/c164ci_ds_v2.0_2001_05_1.pdf?folderId=db3a304412b407950112b408e8c90004&fileId=db3a304412b407950112b41e161331d0&sId=db3a30433d956bc3013d9b13f66314ac
footprint INF-P-MQFP-80-7_N (QFP, 80-Leads, Body 14x14mm, Pitch 0.65mm, IPC Medium Density)
footprint INF-P-MQFP-80-7_L (QFP, 80-Leads, Body 14x14mm, Pitch 0.65mm, IPC High Density)
footprint INF-P-MQFP-80-7_M (QFP, 80-Leads, Body 14x14mm, Pitch 0.65mm, IPC Low Density)
part A pins: 2 P5.4/AN4/T2EUD (in), 3 P5.5/AN5/T4EUD (in), 4 P5.6/AN6/T2IN (in), 5 P5.7/AN7/T4IN (in), 8 P3.4/T3EUD (io), 9 P3.6/T3IN (io), 10 P3.8/MRST (io), 11 P3.9/MTSR (io), 12 P3.10/TXD0 (io), 13 P3.11/RXD0 (io), 14 P3.12/~{BHE}/~{WRH} (io), 15 P3.13/SCLK (io), 16 P3.15/CLKOUT/FOUT (io), 17 P4.0/A16/~{CS3} (io), 18 P4.1/A17/~{CS2} (io), 19 P4.2/A18/~{CS1} (io), 22 P4.3/A19/~{CS0} (io), 23 P4.5/A20 (io), 24 P4.6/A21 (io), 25 ~{RD} (out) "External Memory Read Strobe. R\D\ is activated for every external instruction or data read access.", 26 ~{WR}/~{WRL} (out) "External Memory Write Strobe. In W\R\-mode this pin is activated for every external data write access. In W\R\L\-mode this pin is activated for low byte data write accesses on a 16-bit bus, and for every data write access on (See Datasheet)", 27 ALE (out) "Address Latch Enable Output. Can be used for latching the address into external memory or an address latch in the multiplexed bus modes.", 28 ~{EA}/VPP (in), 29 P0L.0/AD0 (io), 30 P0L.1/AD1 (io), 31 P0L.2/AD2 (io), 32 P0L.3/AD3 (io), 33 P0L.4/AD4 (io), 34 P0L.5/AD5 (io), 35 P0L.6/AD6 (io), 36 P0L.7/AD7 (io), 37 P0H.0/AD8 (io), 38 P0H.1/AD9 (io), 39 P0H.2/AD10 (io), 42 P0H.3/AD11 (io), 43 P0H.4/AD12 (io), 44 P0H.5/AD13 (io), 45 P0H.6/AD14 (io), 46 P0H.7/AD15 (io), 47 P1L.0/A0/CC60 (io), 48 P1L.1/A1/COUT60 (io), 49 P1L.2/A2/CC61 (io), 50 P1L.3/A3/COUT61 (io), 51 P1L.4/A4/CC62 (io), 52 P1L.5/A5/COUT62 (io), 54 XTAL2 "Output of the oscillator amplifier circuit.", 55 XTAL1 "Input to the oscillator amplifier and input to the internal clock generator", 57 P1L.6/A6/COUT63 (io), 58 P1L.7/A7/~{CTRAP} (io), 59 P1H.0/A8/~{CC6POS0}/EX0IN (io), 62 P1H.1/A9/~{CC6POS1}/EX1IN (io), 63 P1H.2/A10/~{CC6POS2}/EX2IN (io), 64 P1H.3/A11/EX3IN/T7IN (io), 65 P1H.4/A12/CC24IO (io), 66 P1H.5/A13/CC25IO (io), 67 P1H.6/A14/CC26IO (io), 68 P1H.7/A15/CC27IO (io), 69 ~{RSTIN} (io) "Reset Input with Schmitt-Trigger characteristics. A low level at this pin while the oscillator is running resets the C164SI. An internal pullup resistor permits power-on reset using only a capacitor connected to VSS.", 70 ~{RSTOUT} (out) "Internal Reset Indication Output. This pin is set to a low level when the part is executing either a hardware-, a software- or a watchdog timer reset. R\S\T\O\U\T\ remains low until the EINIT (end of initialization) (See Datasheet)", 71 ~{NMI} (in) "Non-Maskable Interrupt Input. A high to low transition at this pin causes the CPU to vector to the NMI trap routine. When the PWRDN (power down) instruction is executed, the N\M\I\ pin must be low in order to force the (See Datasheet)", 72 P8.0/CC16IO (io), 73 P8.1/CC17IO (io), 74 P8.2/CC18IO (io), 75 P8.3/CC19IO (io), 76 P5.0/AN0 (in), 77 P5.1/AN1 (in), 78 P5.2/AN2 (in), 79 P5.3/AN3 (in)
part B pins: 1 VAREF (power) "Reference voltage for the A/D converter.", 6 VSS (power) "Digital Ground.", 7 VDD (power) "Digital Supply Voltage: +5 V during normal operation and idle mode. =2.5 V during power down mode.", 20 VSS (power) "Digital Ground.", 21 VDD (power) "Digital Supply Voltage: +5 V during normal operation and idle mode. =2.5 V during power down mode.", 40 VDD (power) "Digital Supply Voltage: +5 V during normal operation and idle mode. =2.5 V during power down mode.", 41 VSS (power) "Digital Ground.", 53 VDD (power) "Digital Supply Voltage: +5 V during normal operation and idle mode. =2.5 V during power down mode.", 56 VSS (power) "Digital Ground.", 60 VSS (power) "Digital Ground.", 61 VDD (power) "Digital Supply Voltage: +5 V during normal operation and idle mode. =2.5 V during power down mode.", 80 VAGND (power) "Reference ground for the A/D converter."

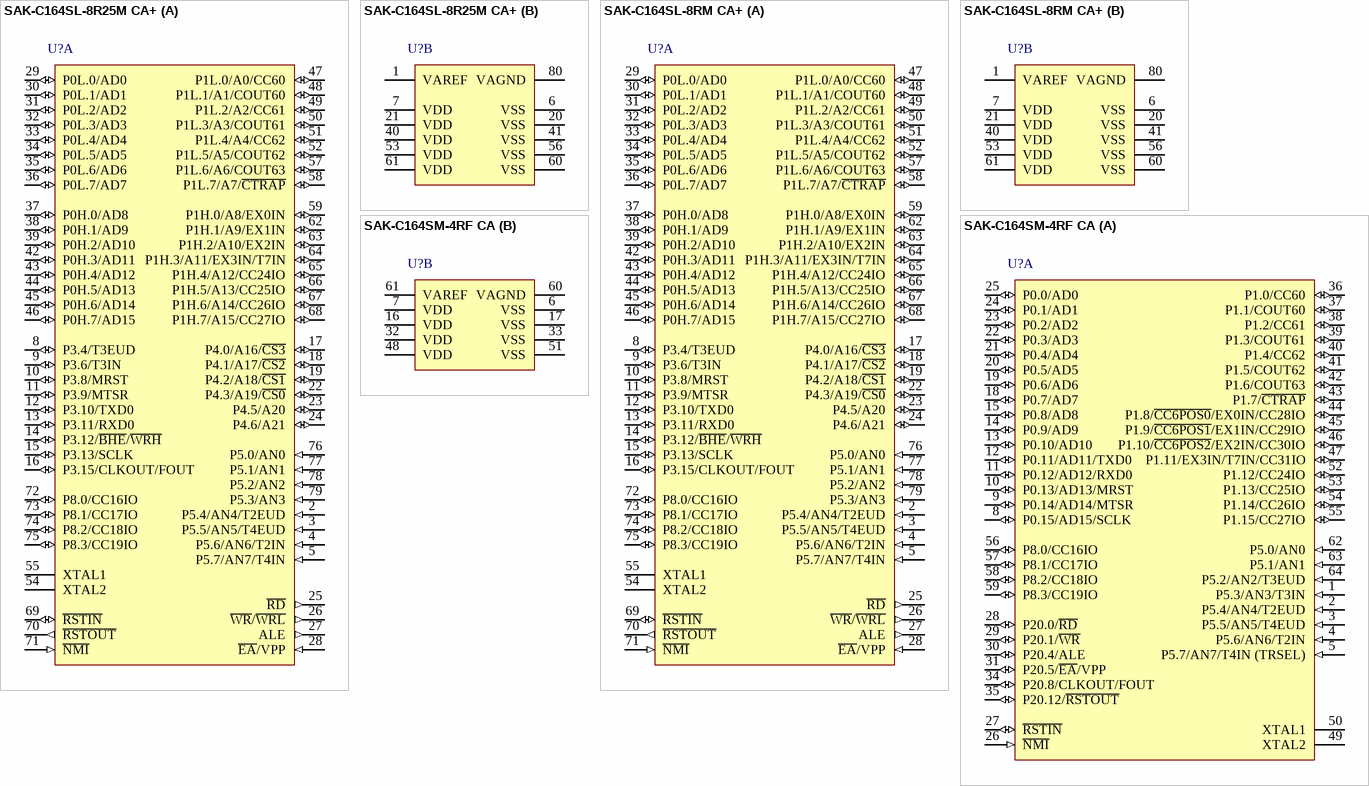
[diagram p43: symbols SAK-C164SL-8R25M CA+ to SAK-C164SM-4RF CA]

## SAK-C164SL-8R25M CA+
designator U?
25 MHz C166 MCU with 64 KByte Program Memory, 4 KByte SRAM, 5 V, -40 to 125 degC, PG-MQFP-80, Green; Manufacturer: Infineon; PartNumber: SAK-C164SL-8R25M CA+; A / D input lines (incl. FADC): 8; CAN Nodes: 0; Digital I/O Lines: 59; DSP functionality (e.g MDU/MAC): TRUE; I/O Operation Voltages: 5 V; Instruction width [bits]: 16; Max Clock Frequency: 25 MHz; Number of ADC Modules: 1; Power Modes: 3; Serial I/O Interfaces: 2; SRAM (incl. Cache): 4 KByte; Timed I/O Pins (PWM-Ch,CAPCOM): 12; Timer / Counter: 5; Type of Memory: ROM; Type of Serial I/O Interfaces: ASC(1), SSC(1); DatasheetVersion: Rev. 2.0; PackageVersion: V2.0, 05/2001; PackageReference: P-MQFP-80-7; PackageDescription: 80-Pin Plastic Metric Quad Flat Package, Body 14 x 14 mm, Pitch 0.65 mm; DMA Channels: 0; External Bus interface: TRUE; Green: TRUE; Oscillator Watchdog: TRUE; Program Memory: 64 KByte; Real Time Clock (RTC): TRUE; Watchdog Timer: TRUE; Mounting Technology: Surface Mount; ComponentLink1Description: Manufacturer URL; ComponentLink1URL: http://www.infineon.com/; ComponentLink2Description: Datasheet; ComponentLink2URL: http://www.infineon.com/dgdl/c164ci_ds_v2.0_2001_05_1.pdf?folderId=db3a304412b407950112b408e8c90004&fileId=db3a304412b407950112b41e161331d0; ComponentLink3Description: Package Specification; ComponentLink3URL: http://www.infineon.com/dgdl/c164ci_ds_v2.0_2001_05_1.pdf?folderId=db3a304412b407950112b408e8c90004&fileId=db3a304412b407950112b41e161331d0&sId=db3a30433d956bc3013d9b13f66314ac
footprint INF-P-MQFP-80-7_N (QFP, 80-Leads, Body 14x14mm, Pitch 0.65mm, IPC Medium Density)
footprint INF-P-MQFP-80-7_L (QFP, 80-Leads, Body 14x14mm, Pitch 0.65mm, IPC High Density)
footprint INF-P-MQFP-80-7_M (QFP, 80-Leads, Body 14x14mm, Pitch 0.65mm, IPC Low Density)
part A pins: 2 P5.4/AN4/T2EUD (in), 3 P5.5/AN5/T4EUD (in), 4 P5.6/AN6/T2IN (in), 5 P5.7/AN7/T4IN (in), 8 P3.4/T3EUD (io), 9 P3.6/T3IN (io), 10 P3.8/MRST (io), 11 P3.9/MTSR (io), 12 P3.10/TXD0 (io), 13 P3.11/RXD0 (io), 14 P3.12/~{BHE}/~{WRH} (io), 15 P3.13/SCLK (io), 16 P3.15/CLKOUT/FOUT (io), 17 P4.0/A16/~{CS3} (io), 18 P4.1/A17/~{CS2} (io), 19 P4.2/A18/~{CS1} (io), 22 P4.3/A19/~{CS0} (io), 23 P4.5/A20 (io), 24 P4.6/A21 (io), 25 ~{RD} (out) "External Memory Read Strobe. R\D\ is activated for every external instruction or data read access.", 26 ~{WR}/~{WRL} (out) "External Memory Write Strobe. In W\R\-mode this pin is activated for every external data write access. In W\R\L\-mode this pin is activated for low byte data write accesses on a 16-bit bus, and for every data write access on (See Datasheet)", 27 ALE (out) "Address Latch Enable Output. Can be used for latching the address into external memory or an address latch in the multiplexed bus modes.", 28 ~{EA}/VPP (in), 29 P0L.0/AD0 (io), 30 P0L.1/AD1 (io), 31 P0L.2/AD2 (io), 32 P0L.3/AD3 (io), 33 P0L.4/AD4 (io), 34 P0L.5/AD5 (io), 35 P0L.6/AD6 (io), 36 P0L.7/AD7 (io), 37 P0H.0/AD8 (io), 38 P0H.1/AD9 (io), 39 P0H.2/AD10 (io), 42 P0H.3/AD11 (io), 43 P0H.4/AD12 (io), 44 P0H.5/AD13 (io), 45 P0H.6/AD14 (io), 46 P0H.7/AD15 (io), 47 P1L.0/A0/CC60 (io), 48 P1L.1/A1/COUT60 (io), 49 P1L.2/A2/CC61 (io), 50 P1L.3/A3/COUT61 (io), 51 P1L.4/A4/CC62 (io), 52 P1L.5/A5/COUT62 (io), 54 XTAL2 "Output of the oscillator amplifier circuit.", 55 XTAL1 "Input to the oscillator amplifier and input to the internal clock generator.", 57 P1L.6/A6/COUT63 (io), 58 P1L.7/A7/~{CTRAP} (io), 59 P1H.0/A8/EX0IN (io), 62 P1H.1/A9/EX1IN (io), 63 P1H.2/A10/EX2IN (io), 64 P1H.3/A11/EX3IN/T7IN (io), 65 P1H.4/A12/CC24IO (io), 66 P1H.5/A13/CC25IO (io), 67 P1H.6/A14/CC26IO (io), 68 P1H.7/A15/CC27IO (io), 69 ~{RSTIN} (io) "Reset Input with Schmitt-Trigger characteristics. A low level at this pin while the oscillator is running resets the C164CI. An internal pullup resistor permits power-on reset using only a capacitor connected to VSS. A spike (See Datasheet)", 70 ~{RSTOUT} (out) "Internal Reset Indication Output. This pin is set to a low level when the part is executing either a hardware-, a software- or a watchdog timer reset. R\S\T\O\U\T\ remains low until the EINIT (end of initialization) (See Datasheet)", 71 ~{NMI} (in) "Non-Maskable Interrupt Input. A high to low transition at this pin causes the CPU to vector to the NMI trap routine. When the PWRDN (power down) instruction is executed, the N\M\I\ pin must be low in order to force the (See Datasheet)", 72 P8.0/CC16IO (io), 73 P8.1/CC17IO (io), 74 P8.2/CC18IO (io), 75 P8.3/CC19IO (io), 76 P5.0/AN0 (in), 77 P5.1/AN1 (in), 78 P5.2/AN2 (in), 79 P5.3/AN3 (in)
part B pins: 1 VAREF (power) "Reference voltage for the A/D converter.", 6 VSS (power) "Digital Ground.", 7 VDD (power) "Digital Supply Voltage: +5 V during normal operation and idle mode. >=2.5 V during power down mode.", 20 VSS (power) "Digital Ground.", 21 VDD (power) "Digital Supply Voltage: +5 V during normal operation and idle mode. >=2.5 V during power down mode.", 40 VDD (power) "Digital Supply Voltage: +5 V during normal operation and idle mode. >=2.5 V during power down mode.", 41 VSS (power) "Digital Ground.", 53 VDD (power) "Digital Supply Voltage: +5 V during normal operation and idle mode. >=2.5 V during power down mode.", 56 VSS (power) "Digital Ground.", 60 VSS (power) "Digital Ground.", 61 VDD (power) "Digital Supply Voltage: +5 V during normal operation and idle mode. >=2.5 V during power down mode.", 80 VAGND (power) "Reference ground for the A/D converter."

## SAK-C164SL-8RM CA+
designator U?
20 MHz C166 MCU with 64 KByte Program Memory, 4 KByte SRAM, 5 V, -40 to 125 degC, PG-MQFP-80, Green; Manufacturer: Infineon; PartNumber: SAK-C164SL-8RM CA+; A / D input lines (incl. FADC): 8; CAN Nodes: 0; Digital I/O Lines: 59; DSP functionality (e.g MDU/MAC): TRUE; I/O Operation Voltages: 5 V; Instruction width [bits]: 16; Max Clock Frequency: 20 MHz; Number of ADC Modules: 1; Power Modes: 3; Serial I/O Interfaces: 2; SRAM (incl. Cache): 4 KByte; Timed I/O Pins (PWM-Ch,CAPCOM): 12; Timer / Counter: 5; Type of Memory: ROM; Type of Serial I/O Interfaces: ASC(1), SSC(1); DatasheetVersion: Rev. 2.0; PackageVersion: V2.0, 05/2001; PackageReference: P-MQFP-80-7; PackageDescription: 80-Pin Plastic Metric Quad Flat Package, Body 14 x 14 mm, Pitch 0.65 mm; DMA Channels: 0; External Bus interface: TRUE; Green: TRUE; Oscillator Watchdog: TRUE; Program Memory: 64 KByte; Real Time Clock (RTC): TRUE; Watchdog Timer: TRUE; Mounting Technology: Surface Mount; ComponentLink1Description: Manufacturer URL; ComponentLink1URL: http://www.infineon.com/; ComponentLink2Description: Datasheet; ComponentLink2URL: http://www.infineon.com/dgdl/c164ci_ds_v2.0_2001_05_1.pdf?folderId=db3a304412b407950112b408e8c90004&fileId=db3a304412b407950112b41e161331d0; ComponentLink3Description: Package Specification; ComponentLink3URL: http://www.infineon.com/dgdl/c164ci_ds_v2.0_2001_05_1.pdf?folderId=db3a304412b407950112b408e8c90004&fileId=db3a304412b407950112b41e161331d0&sId=db3a30433d956bc3013d9b13f66314ac
footprint INF-P-MQFP-80-7_N (QFP, 80-Leads, Body 14x14mm, Pitch 0.65mm, IPC Medium Density)
footprint INF-P-MQFP-80-7_L (QFP, 80-Leads, Body 14x14mm, Pitch 0.65mm, IPC High Density)
footprint INF-P-MQFP-80-7_M (QFP, 80-Leads, Body 14x14mm, Pitch 0.65mm, IPC Low Density)
part A pins: 2 P5.4/AN4/T2EUD (in), 3 P5.5/AN5/T4EUD (in), 4 P5.6/AN6/T2IN (in), 5 P5.7/AN7/T4IN (in), 8 P3.4/T3EUD (io), 9 P3.6/T3IN (io), 10 P3.8/MRST (io), 11 P3.9/MTSR (io), 12 P3.10/TXD0 (io), 13 P3.11/RXD0 (io), 14 P3.12/~{BHE}/~{WRH} (io), 15 P3.13/SCLK (io), 16 P3.15/CLKOUT/FOUT (io), 17 P4.0/A16/~{CS3} (io), 18 P4.1/A17/~{CS2} (io), 19 P4.2/A18/~{CS1} (io), 22 P4.3/A19/~{CS0} (io), 23 P4.5/A20 (io), 24 P4.6/A21 (io), 25 ~{RD} (out) "External Memory Read Strobe. R\D\ is activated for every external instruction or data read access.", 26 ~{WR}/~{WRL} (out) "External Memory Write Strobe. In W\R\-mode this pin is activated for every external data write access. In W\R\L\-mode this pin is activated for low byte data write accesses on a16-bit bus, and for every data write access on (See Datasheet)", 27 ALE (out) "Address Latch Enable Output. Can be used for latching the address into external memory or an address latch in the multiplexed bus modes.", 28 ~{EA}/VPP (in), 29 P0L.0/AD0 (io), 30 P0L.1/AD1 (io), 31 P0L.2/AD2 (io), 32 P0L.3/AD3 (io), 33 P0L.4/AD4 (io), 34 P0L.5/AD5 (io), 35 P0L.6/AD6 (io), 36 P0L.7/AD7 (io), 37 P0H.0/AD8 (io), 38 P0H.1/AD9 (io), 39 P0H.2/AD10 (io), 42 P0H.3/AD11 (io), 43 P0H.4/AD12 (io), 44 P0H.5/AD13 (io), 45 P0H.6/AD14 (io), 46 P0H.7/AD15 (io), 47 P1L.0/A0/CC60 (io), 48 P1L.1/A1/COUT60 (io), 49 P1L.2/A2/CC61 (io), 50 P1L.3/A3/COUT61 (io), 51 P1L.4/A4/CC62 (io), 52 P1L.5/A5/COUT62 (io), 54 XTAL2 "Output of the oscillator amplifier circuit.", 55 XTAL1 "Input to the oscillator amplifier and input to the internal clock generator.", 57 P1L.6/A6/COUT63 (io), 58 P1L.7/A7/~{CTRAP} (io), 59 P1H.0/A8/EX0IN (io), 62 P1H.1/A9/EX1IN (io), 63 P1H.2/A10/EX2IN (io), 64 P1H.3/A11/EX3IN/T7IN (io), 65 P1H.4/A12/CC24IO (io), 66 P1H.5/A13/CC25IO (io), 67 P1H.6/A14/CC26IO (io), 68 P1H.7/A15/CC27IO (io), 69 ~{RSTIN} (io) "Reset Input with Schmitt-Trigger characteristics. A low level at this pin while the oscillator is running resets the C164CI. An internal pullup resistor permits power-on reset using only a capacitor connected to VSS. A spike (See Datasheet)", 70 ~{RSTOUT} (out) "Internal Reset Indication Output. This pin is set to a low level when the part is executing either a hardware-, a software- or a watchdog timer reset. R\S\T\O\U\T\ remains low until the EINIT (end of initialization) (See Datasheet)", 71 ~{NMI} (in) "Non-Maskable Interrupt Input. A high to low transition at this pin causes the CPU to vector to the NMI trap routine. When the PWRDN (power down) instruction is executed, the N\M\I\ pin must be low in order to force the (See Datasheet)", 72 P8.0/CC16IO (io), 73 P8.1/CC17IO (io), 74 P8.2/CC18IO (io), 75 P8.3/CC19IO (io), 76 P5.0/AN0 (in), 77 P5.1/AN1 (in), 78 P5.2/AN2 (in), 79 P5.3/AN3 (in)
part B pins: 1 VAREF (power) "Reference voltage for the A/D converter.", 6 VSS (power) "Digital Ground.", 7 VDD (power) "Digital Supply Voltage: +5 V during normal operation and idle mode. >=2.5 V during power down mode.", 20 VSS (power) "Digital Ground.", 21 VDD (power) "Digital Supply Voltage: +5 V during normal operation and idle mode. >=2.5 V during power down mode.", 40 VDD (power) "Digital Supply Voltage: +5 V during normal operation and idle mode. >=2.5 V during power down mode.", 41 VSS (power) "Digital Ground.", 53 VDD (power) "Digital Supply Voltage: +5 V during normal operation and idle mode. >=2.5 V during power down mode.", 56 VSS (power) "Digital Ground.", 60 VSS (power) "Digital Ground.", 61 VDD (power) "Digital Supply Voltage: +5 V during normal operation and idle mode. >=2.5 V during power down mode.", 80 VAGND (power) "Reference ground for the A/D converter."